# EAGLE library part JST_S10B-XASK-1 (library JST_S10B-XASK-1)
Designed by AKstudios github.com/akstudios
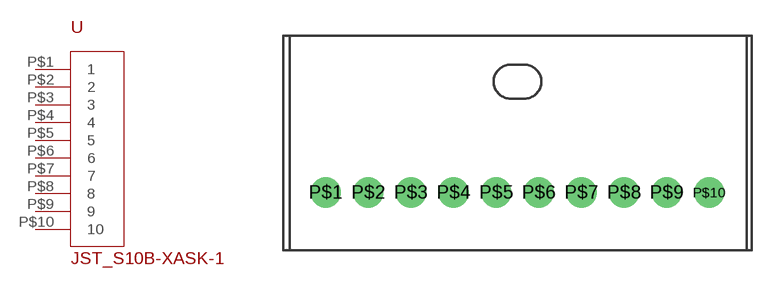
[diagram p0: symbol with the pads of JST_XA_2.5MM_10PIN_SIDE_ENTRY; footprint JST_XA_2.5MM_10PIN_SIDE_ENTRY]

Designator prefix -

## JST_S10B-XASK-1  [JST_XA_2.5MM_10PIN_SIDE_ENTRY]
P$1  1
P$2  2
P$3  3
P$4  4
P$5  5
P$6  6
P$7  7
P$8  8
P$9  9
P$10  10

## Footprint JST_XA_2.5MM_10PIN_SIDE_ENTRY (pad centres in mm)
drill 1 pad 1.778: P$1 0,0; P$2 2.5,0; P$3 5,0; P$4 7.5,0; P$5 10,0; P$6 12.5,0; P$7 15,0; P$8 17.5,0; P$9 20,0; P$10 22.5,0